# Altium footprint library Trans_pcb.PcbLib: 72 footprints (part 1 of 5)
Each footprint in its own frame and in the unit in brackets; x right, y up, seen from the top. Pads: shape width x height; smd on the part's side, far side on the other; paste and mask are expansions set on the pad; w line width, h text height; cw(c..) or ccw(c..) is an arc to the next point about the centre after c.
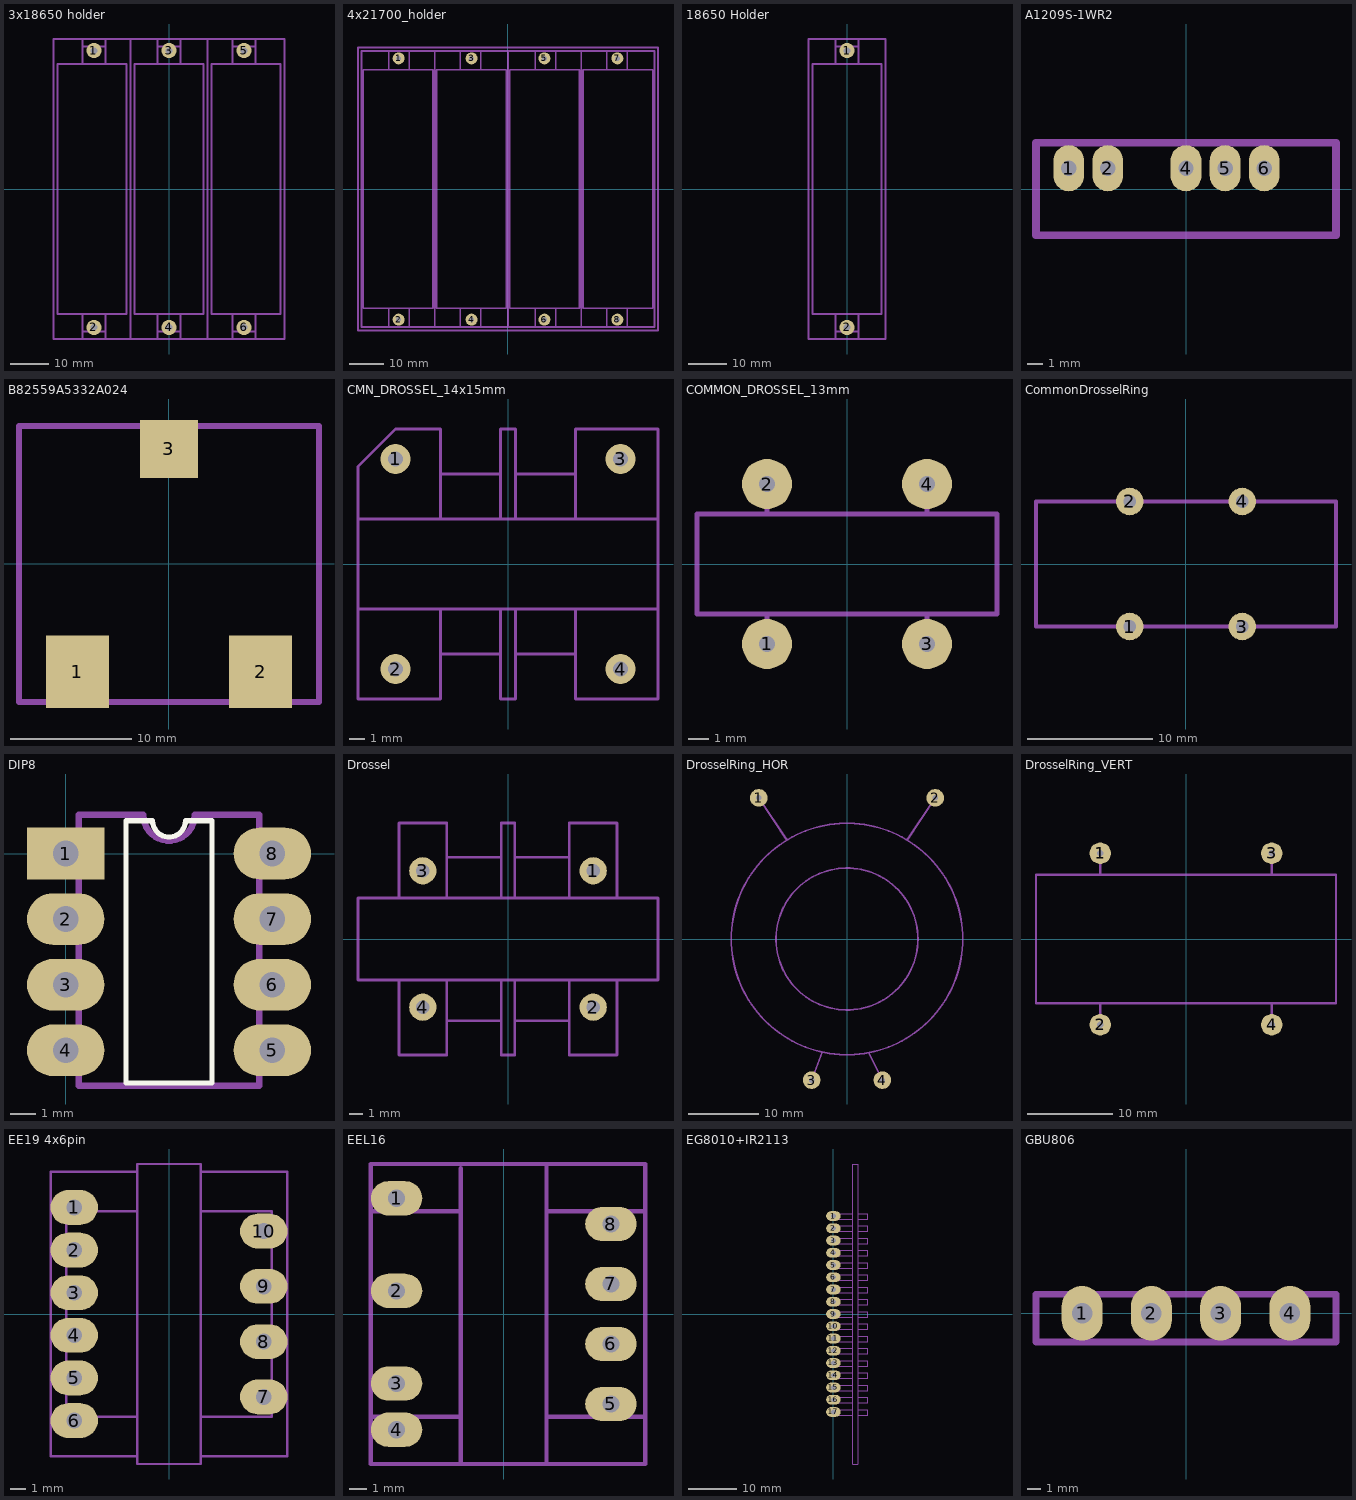
[diagram p0: the footprints below, top view; thin cyan lines are the x and y axes]

## 3x18650 holder [mm]
pads (6):
  round 4 hole 1.7 unplated: 1(-19.5,36) 2(-19.5,-36) 3(0,36) 4(0,-36) 5(19.5,36) 6(19.5,-36)
Mechanical 13:
  lines w0.5: -22.5,-39 -22.5,-32.5 ; -22.5,-37 -16.5,-37 ; -22.5,32.5 -22.5,39 ; -22.5,37 -16.5,37 ; -16.5,-39 -16.5,-32.5 ; -16.5,32.5 -16.5,39 ; -10,-39 -10,39 ; -3,-39 -3,-32.5 ; -3,-37 3,-37 ; -3,32.5 -3,39 ; -3,37 3,37 ; 3,-39 3,-32.5 ; 3,32.5 3,39 ; 10,-39 10,39 ; 16.5,-39 16.5,-32.5 ; 16.5,-37 22.5,-37 ; 16.5,32.5 16.5,39 ; 16.5,37 22.5,37 ; 22.5,-39 22.5,-32.5 ; 22.5,32.5 22.5,39 ; -30,-39 -30,39 30,39 30,-39 -30,-39 ; -29,-32.5 -29,32.5 -11,32.5 -11,-32.5 -29,-32.5 ; -9,-32.5 -9,32.5 9,32.5 9,-32.5 -9,-32.5 ; 11,-32.5 11,32.5 29,32.5 29,-32.5 11,-32.5

## 4x21700_holder [mm]
pads (8):
  round 3.5 hole 1.5: 1(-32.1,38.325) 2(-32.1,-38.325) 3(-10.7,38.325) 4(-10.7,-38.325) 5(10.7,38.325) 6(10.7,-38.325) 7(32.1,38.325) 8(32.1,-38.325)
Mechanical 13:
  lines w0.5: -35,-40.5 -35,-35 ; -35,35 -35,40.5 ; -29,-40.5 -29,-35 ; -29,35 -29,40.5 ; -21.5,-40.5 -21.5,40.5 ; -14,-40.5 -14,-35 ; -14,35 -14,40.5 ; -8,-40.5 -8,-35 ; -8,35 -8,40.5 ; 0,-40.5 0,40.5 ; 8,-40.5 8,-35 ; 8,35 8,40.5 ; 14,-40.5 14,-35 ; 14,35 14,40.5 ; 21.5,-40.5 21.5,40.5 ; 29,-40.5 29,-35 ; 29,35 29,40.5 ; 35,-40.5 35,-35 ; 35,35 35,40.5 ; -44,-41.5 44,-41.5 44,41.5 -44,41.5 -44,-41.5 ; -43,-40.5 -43,40.5 43,40.5 43,-40.5 -43,-40.5 ; -42.5,-35 -22,-35 -22,35 -42.5,35 -42.5,-35 ; -21,-35 -0.5,-35 -0.5,35 -21,35 -21,-35 ; 0.5,-35 21,-35 21,35 0.5,35 0.5,-35 ; 22,-35 42.5,-35 42.5,35 22,35 22,-35

## 18650 Holder [mm]
pads (2):
  round 4 hole 1.7 unplated: 1(0,36) 2(0,-36)
Mechanical 13:
  lines w0.5: -3,-39 -3,-32.5 ; -3,-37 3,-37 ; -3,32.5 -3,39 ; -3,37 3,37 ; 3,-39 3,-32.5 ; 3,32.5 3,39 ; -10,-39 -10,39 10,39 10,-39 -10,-39 ; -9,-32.5 9,-32.5 9,32.5 -9,32.5 -9,-32.5

## A1209S-1WR2 [mm]
height 9.3
pads (5):
  oval 2x3 hole 1: 1(-7.62,1.35) 2(-5.08,1.35) 4(0,1.35) 5(2.54,1.35) 6(5.08,1.35)
Mechanical 13:
  lines w0.5: -9.75,-3 9.75,-3 9.75,3 -9.75,3 -9.75,-3

## B82559A5332A024 [mm]
pads (3):
  rect 5.2x6 smd: 1(-7.55,-8.9) 2(7.55,-8.9)
  rect 4.8x4.8 smd: 3(0,9.5)
Mechanical 13:
  lines w0.5: -12.375,-11.375 -12.375,11.375 12.375,11.375 12.375,-11.375 -12.375,-11.375

## CMN_DROSSEL_14x15mm [mm]
height 26
pads (4):
  round 2 hole 1: 1(-7.5,7) 2(-7.5,-7) 3(7.5,7) 4(7.5,-7)
Mechanical 1:
  lines w0.2: -4.5,-6 -0.5,-6 ; -4.5,-3 -4.5,-9 -10,-9 -10,-3 ; -4.5,3 -4.5,9 -7.5,9 -10,6.5 -10,3 ; -4.5,6 -0.5,6 ; -0.5,-3 -0.5,-9 0.5,-9 0.5,-3 ; -0.5,3 -0.5,9 0.5,9 0.5,3 ; 0.5,-6 4.5,-6 ; 0.5,6 4.5,6 ; 4.5,-3 4.5,-9 10,-9 10,-3 ; 4.5,3 4.5,9 10,9 10,3 ; -10,-3 -10,3 ; -10,-3 10,-3 ; -10,3 10,3 ; 10,-3 10,3

## COMMON_DROSSEL_13mm [mm]
height 13
pads (4):
  round 2.5 hole 0.8: 1(-4,-4) 2(-4,4) 3(4,-4) 4(4,4)
Mechanical 13:
  lines w0.25: -4,-4 -4,-2.5 ; -4,2.5 -4,4 ; 4,-4 4,-2.5 ; 4,2.5 4,4 ; -7.5,-2.5 -7.5,2.5 7.5,2.5 7.5,-2.5 -7.5,-2.5

## CommonDrosselRing [mm]
height 20
pads (4):
  round 2.2 hole 1: 1(-4.5,-5) 2(-4.5,5) 3(4.5,-5) 4(4.5,5)
Mechanical 13:
  lines w0.3: -12,-5 12,-5 12,5 -12,5 -12,-5

## DIP8 [mm]
pads (8):
  rect 3x2 hole 1: 1(0,0)
  oval 3x2 hole 1: 2(0,-2.54) 3(0,-5.08) 4(0,-7.62) 5(8,-7.62) 6(8,-5.08) 7(8,-2.54) 8(8,0)
Top Overlay:
  lines w0.2: 2.335,-8.89 2.335,1.27 3.365,1.27 ccw(c4,1.27) 4.635,1.27 5.665,1.27 5.665,-8.89 2.335,-8.89
Mechanical 13:
  lines w0.25: 0.5,-9 7.5,-9 7.5,1.5 5,1.5 cw(c4,1.5) 3,1.5 0.5,1.5 0.5,-9

## Drossel [mm]
height 26
pads (4):
  round 2 hole 1: 1(6.25,5) 2(6.25,-5) 3(-6.25,5) 4(-6.25,-5)
Mechanical 1:
  lines w0.2: -8,-3 -8,-8.5 -4.5,-8.5 -4.5,-3 ; -8,3 -8,8.5 -4.5,8.5 -4.5,3 ; -4.5,-6 -0.5,-6 ; -4.5,6 -0.5,6 ; -0.5,-3 -0.5,-8.5 0.5,-8.5 0.5,-3 ; -0.5,3 -0.5,8.5 0.5,8.5 0.5,3 ; 0.5,-6 4.5,-6 ; 0.5,6 4.5,6 ; 4.5,-3 4.5,-8.5 8,-8.5 8,-3 ; 4.5,3 4.5,8.5 8,8.5 8,3 ; -11,-3 11,-3 11,3 -11,3 -11,-3

## DrosselRing_HOR [mm]
height 15
pads (4):
  round 2.5 hole 0.8: 1(-12.5,20) 2(12.5,20) 3(-5,-20) 4(5,-20)
Mechanical 13:
  circle w0.25: c0,0 r10.05
  circle w0.25: c0,0 r16.4
  lines w0.25: -12.5,20 -8.5,14 ; -5,-20 -3.5,-16 ; 3.1,-16.1 5,-20 ; 8.5,14 12.5,20

## DrosselRing_VERT [mm]
height 35
pads (4):
  round 2.5 hole 0.8: 1(-10,10) 2(-10,-10) 3(10,10) 4(10,-10)
Mechanical 13:
  lines w0.25: -10,-10 -10,-7.5 ; -10,7.5 -10,10 ; 10,-10 10,-7.5 ; 10,7.5 10,10 ; -17.5,-7.5 -17.5,7.5 17.5,7.5 17.5,-7.5 -17.5,-7.5

## EE19 4x6pin [mm]
pads (10):
  oval 3x2.2 hole 1: 1(-6,6.75) 2(-6,4.05) 3(-6,1.35) 4(-6,-1.35) 5(-6,-4.05) 6(-6,-6.75) 7(6,-5.25) 8(6,-1.75) 9(6,1.75) 10(6,5.25)
Mechanical 13:
  lines w0.15: -2,-9 -7.5,-9 -7.5,9 -2,9 ; -2,-6.5 -6.5,-6.5 -6.5,6 -6,6.5 -2,6.5 ; 2,-9 7.5,-9 7.5,9 2,9 ; 2,-6.5 6.5,-6.5 6.5,6.5 2,6.5 ; -2,-9.5 2,-9.5 2,9.5 -2,9.5 -2,-9.5

## EEL16 [mm]
height 32
pads (8):
  oval 3x2 hole 1 unplated: 1(-6.25,6.75) 2(-6.25,1.35) 3(-6.25,-4.05) 4(-6.25,-6.75) 5(6.25,-5.25) 6(6.25,-1.75) 7(6.25,1.75) 8(6.25,5.25)
Mechanical 13:
  lines w0.25: -7.75,-6 -2.5,-6 ; -7.75,6 -2.5,6 ; -2.5,-8.75 -2.5,8.5 ; 2.5,-8.75 2.5,8.75 ; 2.5,-6 8.25,-6 ; 2.5,6 8.25,6 ; -7.75,-8.75 8.25,-8.75 8.25,8.75 -7.75,8.75 -7.75,-8.75

## EG8010+IR2113 [mm]
height 33
pads (17):
  oval 3x2 hole 1 unplated: 1(0,20.32) 2(0,17.78) 3(0,15.24) 4(0,12.7) 5(0,10.16) 6(0,7.62) 7(0,5.08) 8(0,2.54) 9(0,0) 10(0,-2.54) 11(0,-5.08) 12(0,-7.62) 13(0,-10.16) 14(0,-12.7) 15(0,-15.24) 16(0,-17.78) 17(0,-20.32)
Mechanical 13:
  lines w0.15: 4,-20.955 4,-19.844
  lines w0.25: 4,-20.955 0,-20.955 0,-19.844 4,-19.844 ; 4,-18.415 0,-18.415 0,-17.304 4,-17.304 ; 4,-15.875 0,-15.875 0,-14.764 4,-14.764 ; 4,-13.335 0,-13.335 0,-12.224 4,-12.224 ; 4,-10.795 0,-10.795 0,-9.684 4,-9.684 ; 4,-8.255 0,-8.255 0,-7.144 4,-7.144 ; 4,-5.715 0,-5.715 0,-4.604 4,-4.604 ; 4,-3.175 0,-3.175 0,-2.064 4,-2.064 ; 4,-0.635 0,-0.635 0,0.476 4,0.476 ; 4,1.905 0,1.905 0,3.016 4,3.016 ; 4,4.445 0,4.445 0,5.556 4,5.556 ; 4,6.985 0,6.985 0,8.096 4,8.096 ; 4,9.525 0,9.525 0,10.636 4,10.636 ; 4,12.065 0,12.065 0,13.176 4,13.176 ; 4,14.605 0,14.605 0,15.716 4,15.716 ; 4,17.145 0,17.145 0,18.256 4,18.256 ; 4,19.685 0,19.685 0,20.796 4,20.796 ; 5.08,-20.955 7.144,-20.955 7.144,-19.844 5.08,-19.844 ; 5.08,-18.415 7.144,-18.415 7.144,-17.304 5.08,-17.304 ; 5.08,-15.875 7.144,-15.875 7.144,-14.764 5.08,-14.764 ; 5.08,-13.335 7.144,-13.335 7.144,-12.224 5.08,-12.224 ; 5.08,-10.795 7.144,-10.795 7.144,-9.684 5.08,-9.684 ; 5.08,-8.255 7.144,-8.255 7.144,-7.144 5.08,-7.144 ; 5.08,-5.715 7.144,-5.715 7.144,-4.604 5.08,-4.604 ; 5.08,-3.175 7.144,-3.175 7.144,-2.064 5.08,-2.064 ; 5.08,-0.635 7.144,-0.635 7.144,0.476 5.08,0.476 ; 5.08,1.905 7.144,1.905 7.144,3.016 5.08,3.016 ; 5.08,4.445 7.144,4.445 7.144,5.556 5.08,5.556 ; 5.08,6.985 7.144,6.985 7.144,8.096 5.08,8.096 ; 5.08,9.525 7.144,9.525 7.144,10.636 5.08,10.636 ; 5.08,12.065 7.144,12.065 7.144,13.176 5.08,13.176 ; 5.08,14.605 7.144,14.605 7.144,15.716 5.08,15.716 ; 5.08,17.145 7.144,17.145 7.144,18.256 5.08,18.256 ; 5.08,19.685 7.144,19.685 7.144,20.796 5.08,20.796 ; 4,-31.115 5.08,-31.115 5.08,31.115 4,31.115 4,-31.115

## GBU806 [mm]
pads (4):
  oval 3x4 hole 1.5 unplated: 1(-7.62,0) 2(-2.54,0) 3(2.54,0) 4(7.62,0)
Mechanical 13:
  lines w0.5: -8,-2 -8,1.5 ; -11,-2.1 11,-2.1 11,1.4 -11,1.4 -11,-2.1